# EAGLE library part CC3100 (library ti)
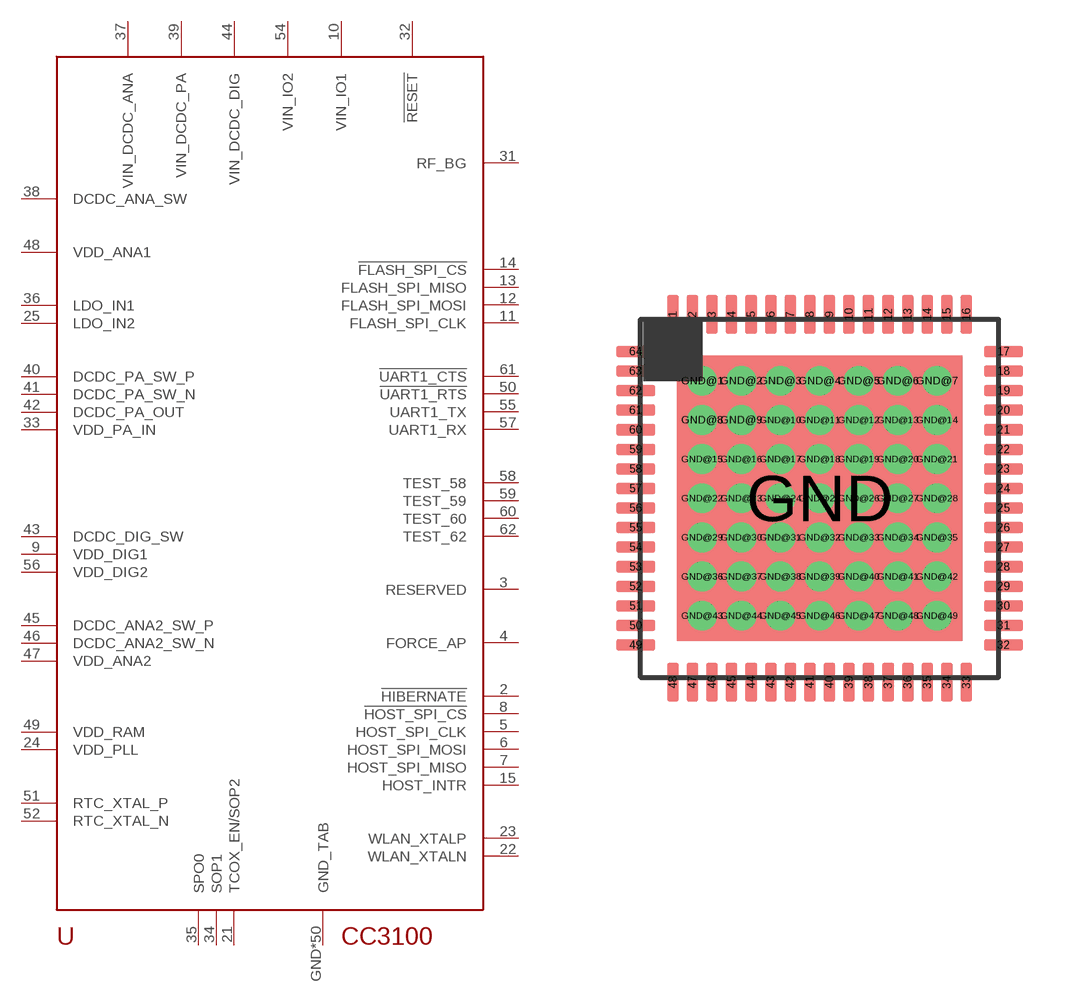
[diagram p0: symbol with the pads of VQFN64(RGC); footprint VQFN64(RGC)]

Designator prefix U

## CC3100  [VQFN64(RGC)]
2  !HIBERNATE
3  RESERVED
4  FORCE_AP
5  HOST_SPI_CLK
6  HOST_SPI_MOSI
7  HOST_SPI_MISO
8  !HOST_SPI_CS
9  VDD_DIG1
10  VIN_IO1
11  FLASH_SPI_CLK
12  FLASH_SPI_MOSI
13  FLASH_SPI_MISO
14  !FLASH_SPI_CS
15  HOST_INTR
21  TCOX_EN/SOP2
22  WLAN_XTALN
23  WLAN_XTALP
24  VDD_PLL
25  LDO_IN2
31  RF_BG
32  !RESET
33  VDD_PA_IN
34  SOP1
35  SPO0
36  LDO_IN1
37  VIN_DCDC_ANA
38  DCDC_ANA_SW
39  VIN_DCDC_PA
40  DCDC_PA_SW_P
41  DCDC_PA_SW_N
42  DCDC_PA_OUT
43  DCDC_DIG_SW
44  VIN_DCDC_DIG
45  DCDC_ANA2_SW_P
46  DCDC_ANA2_SW_N
47  VDD_ANA2
48  VDD_ANA1
49  VDD_RAM
50  !UART1_RTS
51  RTC_XTAL_P
52  RTC_XTAL_N
54  VIN_IO2
55  UART1_TX
56  VDD_DIG2
57  UART1_RX
58  TEST_58
59  TEST_59
60  TEST_60
61  !UART1_CTS
62  TEST_62
GND  GND_TAB
GND@1  GND_TAB
GND@2  GND_TAB
GND@3  GND_TAB
GND@4  GND_TAB
GND@5  GND_TAB
GND@6  GND_TAB
GND@7  GND_TAB
GND@8  GND_TAB
GND@9  GND_TAB
GND@10  GND_TAB
GND@11  GND_TAB
GND@12  GND_TAB
GND@13  GND_TAB
GND@14  GND_TAB
GND@15  GND_TAB
GND@16  GND_TAB
GND@17  GND_TAB
GND@18  GND_TAB
GND@19  GND_TAB
GND@20  GND_TAB
GND@21  GND_TAB
GND@22  GND_TAB
GND@23  GND_TAB
GND@24  GND_TAB
GND@25  GND_TAB
GND@26  GND_TAB
GND@27  GND_TAB
GND@28  GND_TAB
GND@29  GND_TAB
GND@30  GND_TAB
GND@31  GND_TAB
GND@32  GND_TAB
GND@33  GND_TAB
GND@34  GND_TAB
GND@35  GND_TAB
GND@36  GND_TAB
GND@37  GND_TAB
GND@38  GND_TAB
GND@39  GND_TAB
GND@40  GND_TAB
GND@41  GND_TAB
GND@42  GND_TAB
GND@43  GND_TAB
GND@44  GND_TAB
GND@45  GND_TAB
GND@46  GND_TAB
GND@47  GND_TAB
GND@48  GND_TAB
GND@49  GND_TAB

## Footprint VQFN64(RGC) (pad centres in mm)
smd 0.3 x 1: 1 -3.75,4.7; 2 -3.25,4.7; 3 -2.75,4.7; 4 -2.25,4.7; 5 -1.75,4.7; 6 -1.25,4.7; 7 -0.75,4.7; 8 -0.25,4.7; 9 0.25,4.7; 10 0.75,4.7; 11 1.25,4.7; 12 1.75,4.7; 13 2.25,4.7; 14 2.75,4.7; 15 3.25,4.7; 16 3.75,4.7; 33 3.75,-4.7; 34 3.25,-4.7; 35 2.75,-4.7; 36 2.25,-4.7; 37 1.75,-4.7; 38 1.25,-4.7; 39 0.75,-4.7; 40 0.25,-4.7; 41 -0.25,-4.7; 42 -0.75,-4.7; 43 -1.25,-4.7; 44 -1.75,-4.7; 45 -2.25,-4.7; 46 -2.75,-4.7; 47 -3.25,-4.7; 48 -3.75,-4.7
smd 1 x 0.3: 17 4.7,3.75; 18 4.7,3.25; 19 4.7,2.75; 20 4.7,2.25; 21 4.7,1.75; 22 4.7,1.25; 23 4.7,0.75; 24 4.7,0.25; 25 4.7,-0.25; 26 4.7,-0.75; 27 4.7,-1.25; 28 4.7,-1.75; 29 4.7,-2.25; 30 4.7,-2.75; 31 4.7,-3.25; 32 4.7,-3.75; 49 -4.7,-3.75; 50 -4.7,-3.25; 51 -4.7,-2.75; 52 -4.7,-2.25; 53 -4.7,-1.75; 54 -4.7,-1.25; 55 -4.7,-0.75; 56 -4.7,-0.25; 57 -4.7,0.25; 58 -4.7,0.75; 59 -4.7,1.25; 60 -4.7,1.75; 61 -4.7,2.25; 62 -4.7,2.75; 63 -4.7,3.25; 64 -4.7,3.75
smd 7.3 x 7.3: GND 0,0
drill 0.254: GND@1 -3,3; GND@2 -2,3; GND@3 -1,3; GND@4 0,3; GND@5 1,3; GND@6 2,3; GND@7 3,3; GND@8 -3,2; GND@9 -2,2; GND@10 -1,2; GND@11 0,2; GND@12 1,2; GND@13 2,2; GND@14 3,2; GND@15 -3,1; GND@16 -2,1; GND@17 -1,1; GND@18 0,1; GND@19 1,1; GND@20 2,1; GND@21 3,1; GND@22 -3,0; GND@23 -2,0; GND@24 -1,0; GND@25 0,0; GND@26 1,0; GND@27 2,0; GND@28 3,0; GND@29 -3,-1; GND@30 -2,-1; GND@31 -1,-1; GND@32 0,-1; GND@33 1,-1; GND@34 2,-1; GND@35 3,-1; GND@36 -3,-2; GND@37 -2,-2; GND@38 -1,-2; GND@39 0,-2; GND@40 1,-2; GND@41 2,-2; GND@42 3,-2; GND@43 -3,-3; GND@44 -2,-3; GND@45 -1,-3; GND@46 0,-3; GND@47 1,-3; GND@48 2,-3; GND@49 3,-3